# Altium schematic symbol library SCH - POWER - SUPPLY - LM7705.SCHLIB: 1 symbol
Pins are listed as number, name and electrical type; pins without a type are passive.

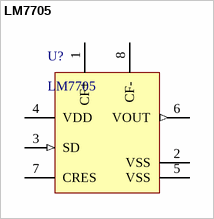
[diagram p0: symbol LM7705]

## LM7705
designator U?
Low Noise Negative Bias Generator, 8-pin Mini SOIC, Pb-Free; MPN: LM7705MM/NOPB; MF: Texas Instruments; OperationTempMin: -40°C; OperationTempMax: +125°C; ComponentLink1Description: Datasheet URL; ComponentLink1URL: http://www.ti.com/general/docs/lit/getliterature.tsp?genericPartNumber=LM7705&fileType=pdf; Package: VSSOP-8 (DGK0008A); Value: LM7705
footprint DGK0008A_M (TSOP, 8-Leads, Body 3.1x3.1mm, Pitch 0.65mm, IPC Low Density)
footprint DGK0008A_L (TSOP, 8-Leads, Body 3.1x3.1mm, Pitch 0.65mm, IPC High Density)
footprint DGK0008A_N (TSOP, 8-Leads, Body 3.1x3.1mm, Pitch 0.65mm, IPC Medium Density)
pins: 1 CF+, 2 VSS (power), 3 SD (in), 4 VDD (power), 5 VSS (power), 6 VOUT (out), 7 CRES, 8 CF-